# Altium schematic symbol library 40V 5A Schottky Diyot.SchLib: 1 symbol
Pins are listed as number, name and electrical type; pins without a type are passive.

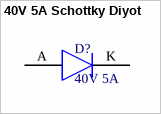
[diagram p0: symbol 40V 5A Schottky Diyot]

## 40V 5A Schottky Diyot
designator D?, comment 40V 5A
footprint 40V 5A Schottky Diyot
pins: A, K